# EAGLE library part DIST_OR_DIODE (library Dist_OR_Diodes)
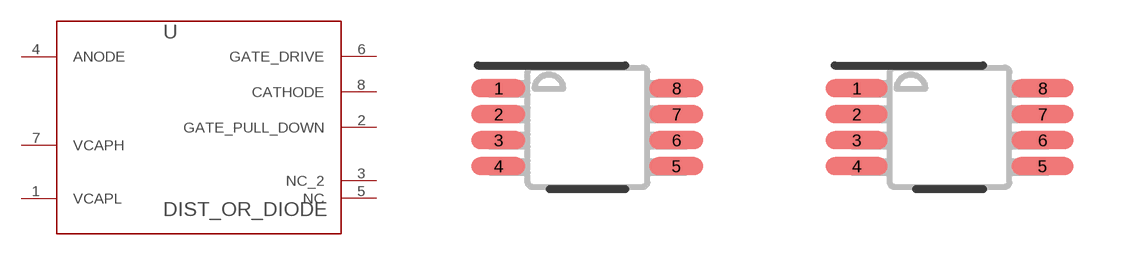
[diagram p0: symbol with the pads of DGK0008A_N; footprints DGK0008A_N, DGK0008A_M]

Designator prefix U

## DIST_OR_DIODE (APPLICATION_BUILDNUMBER: *; COMPTYPE: IC; MANUFACTURER: Texas Instruments; MOUNTTYPE: SMT; PACKAGEREFERENCE: DGK0008A; PARTNUMBER: LM74610QDGKRQ1; PIN_COUNT: 8; REFDES: RefDes; TYPE: TYPE; VALUE: Value)  [DGK0008A_N]
1  VCAPL  pas
2  GATE_PULL_DOWN  pas
3  NC_2  pas
4  ANODE  pwr
5  NC  pas
6  GATE_DRIVE  out
7  VCAPH  pas
8  CATHODE  out

## DIST_OR_DIODEDGK0008A_M (APPLICATION_BUILDNUMBER: *; COMPTYPE: IC; MANUFACTURER: Texas Instruments; MOUNTTYPE: SMT; PACKAGEREFERENCE: DGK0008A; PARTNUMBER: LM74610QDGKRQ1; PIN_COUNT: 8; REFDES: RefDes; TYPE: TYPE; VALUE: Value)  [DGK0008A_M]
Pads as for DGK0008A_N

## DIST_OR_DIODEDGK0008A_L (APPLICATION_BUILDNUMBER: *; COMPTYPE: IC; MANUFACTURER: Texas Instruments; MOUNTTYPE: SMT; PACKAGEREFERENCE: DGK0008A; PARTNUMBER: LM74610QDGKRQ1; PIN_COUNT: 8; REFDES: RefDes; TYPE: TYPE; VALUE: Value)  [DGK0008A_L]
Pads as for DGK0008A_N

## Footprint DGK0008A_N (pad centres in mm)
smd 1.35 x 0.45: 1 -2.225,0.975; 2 -2.225,0.325; 3 -2.225,-0.325; 4 -2.225,-0.975; 5 2.225,-0.975; 6 2.225,-0.325; 7 2.225,0.325; 8 2.225,0.975

## Footprint DGK0008A_M (pad centres in mm)
smd 1.55 x 0.45: 1 -2.325,0.975; 2 -2.325,0.325; 3 -2.325,-0.325; 4 -2.325,-0.975; 5 2.325,-0.975; 6 2.325,-0.325; 7 2.325,0.325; 8 2.325,0.975

## Footprint DGK0008A_L (pad centres in mm)
smd 1.15 x 0.45: 1 -2.125,0.975; 2 -2.125,0.325; 3 -2.125,-0.325; 4 -2.125,-0.975; 5 2.125,-0.975; 6 2.125,-0.325; 7 2.125,0.325; 8 2.125,0.975